# Altium integrated library CRGCQ0402F15K.IntLib: 1 symbol
Pins are listed as number, name and electrical type; pins without a type are passive.

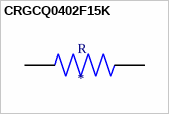
[diagram p0: symbol CRGCQ0402F15K]

## CRGCQ0402F15K
designator R
Fixed Resistor CRGCQ 0402 15K 1%; MF: TE Connectivity; MP: CRGCQ0402F15K; Price: None; Availability: Unavailable; Package: 1005; SnapEDA_Link: https://www.snapeda.com/parts/CRGCQ0402F15K/TE%20Connectivity/view-part/3188290/?ref=snap; Value: *
footprint RESC1005X40N
pins: 1, 2